# Altium footprint library SamacSys.PcbLib: 3 footprints
Each footprint in its own frame and in the unit in brackets; x right, y up, seen from the top. Pads: shape width x height; smd on the part's side, far side on the other; paste and mask are expansions set on the pad; w line width, h text height; cw(c..) or ccw(c..) is an arc to the next point about the centre after c.
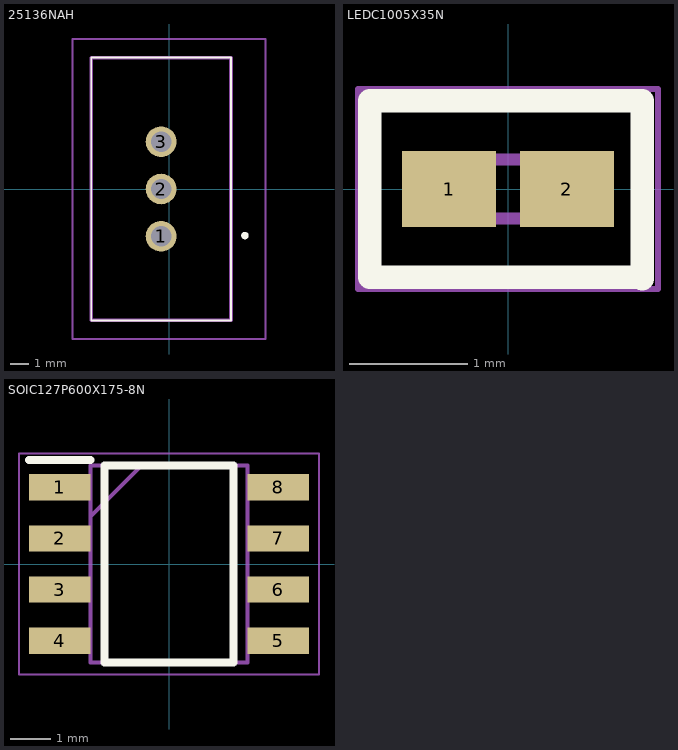
[diagram p0: the footprints below, top view; thin cyan lines are the x and y axes]

## 25136NAH [mm]
pads (3):
  round 1.65 hole 1.1: 1(-0.425,-2.54) 2(-0.425,0) 3(-0.425,2.54)
Top Overlay:
  lines w0.1: -4.175,-7.05 3.325,-7.05 3.325,7.05 -4.175,7.05 -4.175,-7.05
  lines w0.2: 4.075,-2.6 cw(c4.075,-2.5) 4.075,-2.4 cw(c4.075,-2.5) 4.075,-2.6
Mechanical 13:
  lines w0.2: -4.175,-7.05 3.325,-7.05 3.325,7.05 -4.175,7.05 -4.175,-7.05
Mechanical 15:
  lines w0.1: -5.175,-8.05 5.175,-8.05 5.175,8.05 -5.175,8.05 -5.175,-8.05
3D body "25136NAH6.stp": height 11.42, standoff -3.28, extent -4.152,-7.091 3.391,7.091

## LEDC1005X35N [mm]
pads (2):
  rect 0.8x0.65 smd: 1(-0.5,0) 2(0.5,0)
Top Overlay:
  lines w0.2: 1.143,-0.762 1.143,0.75 -0.369,0.75 -1.175,0.75 -1.175,-0.75 1.143,-0.75
Mechanical 13:
  lines w0.1: -0.5,0.083 -0.333,0.25 ; -0.5,-0.25 -0.5,0.25 0.5,0.25 0.5,-0.25 -0.5,-0.25
Mechanical 15:
  lines w0.05: -1.275,-0.85 -1.275,0.85 1.275,0.85 1.275,-0.85 -1.275,-0.85
3D body "LTST-C281KGKT.stp": height 0.35, standoff 0, extent -0.5,-0.25 0.5,0.25

## SOIC127P600X175-8N [mm]
pads (8):
  rect 1.525x0.65 smd: 1(-2.712,1.905) 2(-2.712,0.635) 3(-2.712,-0.635) 4(-2.712,-1.905) 5(2.712,-1.905) 6(2.712,-0.635) 7(2.712,0.635) 8(2.712,1.905)
Top Overlay:
  lines w0.2: -3.475,2.58 -1.95,2.58 ; -1.6,-2.45 1.6,-2.45 1.6,2.45 -1.6,2.45 -1.6,-2.45
Mechanical 13:
  lines w0.1: -1.95,1.18 -0.68,2.45 ; -1.95,-2.45 1.95,-2.45 1.95,2.45 -1.95,2.45 -1.95,-2.45
Mechanical 15:
  lines w0.05: -3.725,-2.75 3.725,-2.75 3.725,2.75 -3.725,2.75 -3.725,-2.75
3D body "NE555DR.stp": height 1.75, standoff 0, extent -3,-2.45 3,2.45